# EAGLE library part TL026C_VGA (library Tristan+Robitaille's+Library)
TL026C DIFFERENTIAL HIGH-FREQUENCY AMPLIFIER WITH AGC Technical specifications: Supply voltage range: ±8V Output current: ±10mA Datasheet <http://www.ti.com/lit/ds/symlink/tl026.pdf> Digi-Key part #: 296-24363-1-ND <http://www.digikey.ca/product-detail/en/texas-instruments/TL026CDR/296-24363-1-ND/2051249> Mouser part #: 595-TL026CD <http://ca.mouser.com/ProductDetail/Texas-Instruments/TL026CD/?qs=sGAEpiMZZMu5kYWqh7b5CXzequ40B2lalq2Khr98vgU%3d> Manufacturer part #: TL026CD
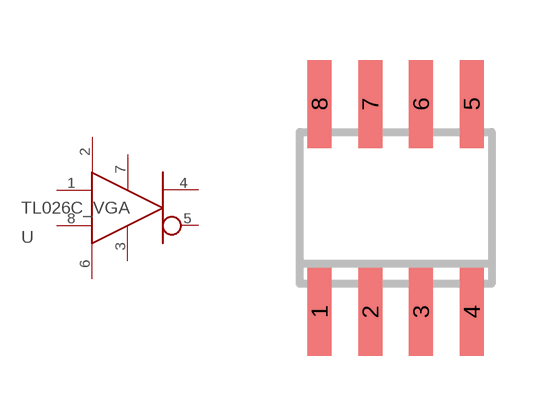
[diagram p14: symbol with the pads of SOIC8; footprint SOIC8]

Designator prefix U

## TL026C_VGA  [SOIC8]
1  IN+  in
2  AGC  in
3  VCC-
4  OUT+  out
5  OUT-  out
6  VCC+
7  REF_OUT  out
8  IN-  in

## Footprint SOIC8 (pad centres in mm)
Small Outline IC
smd 0.6 x 2.2: 1 -1.905,-2.6; 2 -0.635,-2.6; 3 0.635,-2.6; 4 1.905,-2.6; 5 1.905,2.6; 6 0.635,2.6; 7 -0.635,2.6; 8 -1.905,2.6